# Altium footprint library PolySwitch.PcbLib: 3 footprints
Each footprint in its own frame and in the unit in brackets; x right, y up, seen from the top. Pads: shape width x height; smd on the part's side, far side on the other; paste and mask are expansions set on the pad; w line width, h text height; cw(c..) or ccw(c..) is an arc to the next point about the centre after c.
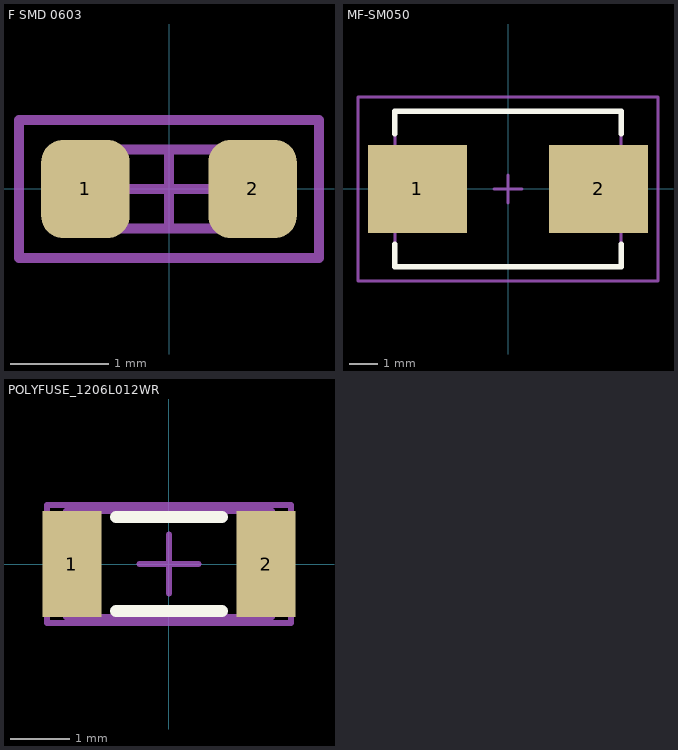
[diagram p0: the footprints below, top view; thin cyan lines are the x and y axes]

## F SMD 0603 [mm] "F SMD 0603"
height 0.45
pads (2):
  rrect50% 0.9x1 smd: 1(-0.85,0) 2(0.85,0)
Mechanical 13:
  lines w0.1: -0.8,-0.4 -0.8,0.4 0.8,0.4 0.8,-0.4 -0.8,-0.4
Mechanical 15:
  lines w0.1: -0.4,0 0.4,0 ; 0,-0.4 0,0.4 ; -1.525,-0.7 -1.525,0.7 1.525,0.7 1.525,-0.7 -1.525,-0.7
3D body: height 0, standoff 0, extent -1274.445,-1269.365 -1274.445,-1269.365
3D body: height 0, standoff 0, extent -1272.032,-1266.317 -1272.032,-1266.317
3D body: height 0, standoff 0, extent -1268.476,-1270.874 -1268.476,-1270.874

## MF-SM050 [mm] "Molded Inductor, 2-Leads, Body 7,4x5,4mm"
height 3.18
pads (2):
  rect 3.5x3.1 smd: 1(-3.2,0) 2(3.2,0)
Top Overlay:
  lines w0.2: -4,-1.95 -4,-2.75 4,-2.75 4,-1.95 ; -4,1.95 -4,2.75 4,2.75 4,1.95
Mechanical 13:
  lines w0.1: -3.99,-2.72 3.99,-2.72 3.99,2.72 -3.99,2.72 -3.99,-2.72
Mechanical 15:
  lines w0.1: -0.5,0 0.5,0 ; 0,-0.5 0,0.5 ; -5.3,-3.25 5.3,-3.25 5.3,3.25 -5.3,3.25 -5.3,-3.25
3D body: height 2.03, standoff 0, extent -2.773,-2.255 2.667,2.255

## POLYFUSE_1206L012WR [mm] "Chip Resistor, 2-Leads, Body 3,3x1,6mm,"
height 0.45
pads (2):
  rect 1x1.8 smd: 1(-1.65,0) 2(1.65,0)
Top Overlay:
  lines w0.2: -0.9,-0.8 0.9,-0.8 ; -0.9,0.8 0.9,0.8
Mechanical 13:
  lines w0.1: -1.75,-0.9 1.75,-0.9 1.75,0.9 -1.75,0.9 -1.75,-0.9
Mechanical 15:
  lines w0.1: -0.5,0 0.5,0 ; 0,-0.5 0,0.5 ; -2.075,-1 2.075,-1 2.075,1 -2.075,1 -2.075,-1
3D body: height 1.05, standoff 0, extent -1.625,-0.825 1.625,0.825